# Altium integrated library XMOS xCORE-USB.IntLib: 15 symbols (part 2 of 2)
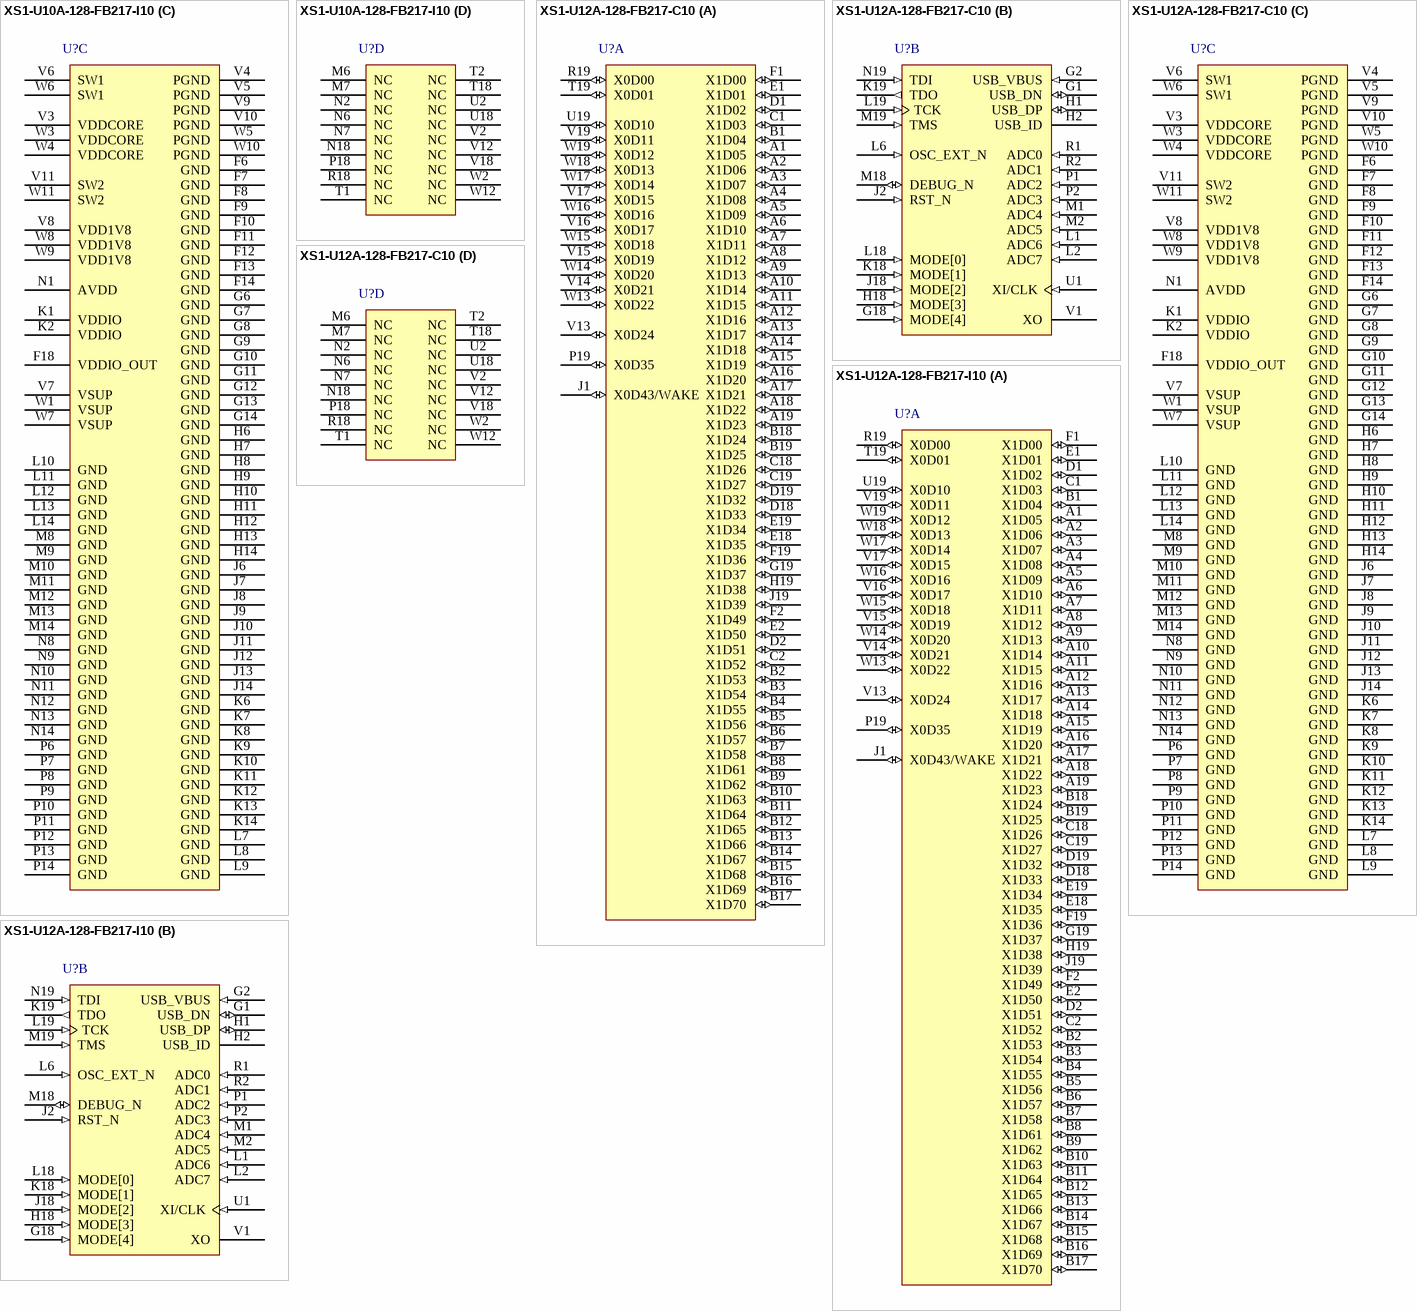
[diagram p6: symbols XS1-U10A-128-FB217-I10 to XS1-U12A-128-FB217-I10]

## XS1-U10A-128-FB217-I10
designator U?
10 Core XS1-U 32-bit Multicore Microcontroller, 74 I/O, -40 to 85 degC, 217-Pin FBGA, Pb-Free; PartNumber: XS1-U10A-128-FB217-I10; Cores/Tiles: 10/2; I/O: 74; RAM: 128 kB; Speed Grade: 1000 MIPS; DatasheetVersion: Rev. X6970; PackageReference: FBGA-217; PackageDescription: 217-Pin Fine Ball Grid Array, Body 16 x 16 mm, Pitch 0.8 mm; Temperature Range: -40 to 85 degC; Mounting Technology: Surface Mount; Code_JEDEC: MO-275; ComponentLink1Description: Manufacturer URL; ComponentLink1URL: http://www.xmos.com/; ComponentLink2Description: Datasheet; ComponentLink2URL: https://www.xmos.com/en/download/public/XS1-U10A-128-FB217-Datasheet%28X6970H%29.pdf; ComponentLink3Description: Package Specification; ComponentLink3URL: https://www.xmos.com/en/download/public/XS1-A16A-128-FB217-Datasheet%28X5719H%29.pdf
footprint XMOS-FBGA-217 (BGA, 217-Balls, Body 16x16mm, Pitch 0.8mm)
part A pins: A1 X1D05 (io), A2 X1D06 (io), A3 X1D07 (io), A4 X1D08 (io), A5 X1D09 (io), A6 X1D10 (io), A7 X1D11 (io), A8 X1D12 (io), A9 X1D13 (io), A10 X1D14 (io), A11 X1D15 (io), A12 X1D16 (io), A13 X1D17 (io), A14 X1D18 (io), A15 X1D19 (io), A16 X1D20 (io), A17 X1D21 (io), A18 X1D22 (io), A19 X1D23 (io), B1 X1D04 (io), B2 X1D53 (io), B3 X1D54 (io), B4 X1D55 (io), B5 X1D56 (io), B6 X1D57 (io), B7 X1D58 (io), B8 X1D61 (io), B9 X1D62 (io), B10 X1D63 (io), B11 X1D64 (io), B12 X1D65 (io), B13 X1D66 (io), B14 X1D67 (io), B15 X1D68 (io), B16 X1D69 (io), B17 X1D70 (io), B18 X1D24 (io), B19 X1D25 (io), C1 X1D03 (io), C2 X1D52 (io), C18 X1D26 (io), C19 X1D27 (io), D1 X1D02 (io), D2 X1D51 (io), D18 X1D33 (io), D19 X1D32 (io), E1 X1D01 (io), E2 X1D50 (io), E18 X1D35 (io), E19 X1D34 (io), F1 X1D00 (io), F2 X1D49 (io), F19 X1D36 (io), G19 X1D37 (io), H19 X1D38 (io), J1 X0D43/WAKE (io), J19 X1D39 (io), P19 X0D35 (io), R19 X0D00 (io), T19 X0D01 (io), U19 X0D10 (io), V13 X0D24 (io), V14 X0D21 (io), V15 X0D19 (io), V16 X0D17 (io), V17 X0D15 (io), V19 X0D11 (io), W13 X0D22 (io), W14 X0D20 (io), W15 X0D18 (io), W16 X0D16 (io), W17 X0D14 (io), W18 X0D13 (io), W19 X0D12 (io)
part B pins: G1 USB_DN (io) "USB Serial Data Inverted", G2 USB_VBUS (in) "USB Power Detect Pin", G18 MODE[4] (in) "Boot mode select", H1 USB_DP (io) "USB Serial Data", H2 USB_ID "USB Device ID (OTG) - Reserved", H18 MODE[3] (in) "Boot mode select", J2 RST_N (in) "Global reset input", J18 MODE[2] (in) "Boot mode select", K18 MODE[1] (in) "Boot mode select", K19 TDO (out) "Test data output", L1 ADC6 (in) "Analog input", L2 ADC7 (in) "Analog input", L6 OSC_EXT_N (in) "Use Silicon Oscillator", L18 MODE[0] (in) "Boot mode select", L19 TCK (in) "Test clock", M1 ADC4 (in) "Analog input", M2 ADC5 (in) "Analog input", M18 DEBUG_N (io) "Multi-chip debug", M19 TMS (in) "Test mode select", N19 TDI (in) "Test data input", P1 ADC2 (in) "Analog input", P2 ADC3 (in) "Analog input", R1 ADC0 (in) "Analog input", R2 ADC1 (in) "Analog input", U1 XI/CLK (in) "Crystal Oscillator/Clock Input", V1 XO "Crystal Oscillator Output"
part C pins: F6 GND (power) "Digital ground", F7 GND (power) "Digital ground", F8 GND (power) "Digital ground", F9 GND (power) "Digital ground", F10 GND (power) "Digital ground", F11 GND (power) "Digital ground", F12 GND (power) "Digital ground", F13 GND (power) "Digital ground", F14 GND (power) "Digital ground", F18 VDDIO_OUT (power) "Digital I/O power out", G6 GND (power) "Digital ground", G7 GND (power) "Digital ground", G8 GND (power) "Digital ground", G9 GND (power) "Digital ground", G10 GND (power) "Digital ground", G11 GND (power) "Digital ground", G12 GND (power) "Digital ground", G13 GND (power) "Digital ground", G14 GND (power) "Digital ground", H6 GND (power) "Digital ground", H7 GND (power) "Digital ground", H8 GND (power) "Digital ground", H9 GND (power) "Digital ground", H10 GND (power) "Digital ground", H11 GND (power) "Digital ground", H12 GND (power) "Digital ground", H13 GND (power) "Digital ground", H14 GND (power) "Digital ground", J6 GND (power) "Digital ground", J7 GND (power) "Digital ground", J8 GND (power) "Digital ground", J9 GND (power) "Digital ground", J10 GND (power) "Digital ground", J11 GND (power) "Digital ground", J12 GND (power) "Digital ground", J13 GND (power) "Digital ground", J14 GND (power) "Digital ground", K1 VDDIO (power) "Digital I/O power", K2 VDDIO (power) "Digital I/O power", K6 GND (power) "Digital ground", K7 GND (power) "Digital ground", K8 GND (power) "Digital ground", K9 GND (power) "Digital ground", K10 GND (power) "Digital ground", K11 GND (power) "Digital ground", K12 GND (power) "Digital ground", K13 GND (power) "Digital ground", K14 GND (power) "Digital ground", L7 GND (power) "Digital ground", L8 GND (power) "Digital ground", L9 GND (power) "Digital ground", L10 GND (power) "Digital ground", L11 GND (power) "Digital ground", L12 GND (power) "Digital ground", L13 GND (power) "Digital ground", L14 GND (power) "Digital ground", M8 GND (power) "Digital ground", M9 GND (power) "Digital ground", M10 GND (power) "Digital ground", M11 GND (power) "Digital ground", M12 GND (power) "Digital ground", M13 GND (power) "Digital ground", M14 GND (power) "Digital ground", N1 AVDD (power) "Supply and reference voltage", N8 GND (power) "Digital ground", N9 GND (power) "Digital ground", N10 GND (power) "Digital ground", N11 GND (power) "Digital ground", N12 GND (power) "Digital ground", N13 GND (power) "Digital ground", N14 GND (power) "Digital ground", P6 GND (power) "Digital ground", P7 GND (power) "Digital ground", P8 GND (power) "Digital ground", P9 GND (power) "Digital ground", P10 GND (power) "Digital ground", P11 GND (power) "Digital ground", P12 GND (power) "Digital ground", P13 GND (power) "Digital ground", P14 GND (power) "Digital ground", V3 VDDCORE (power) "Core voltage supply", V4 PGND (power) "Power ground", V5 PGND (power) "Power ground", V6 SW1 (power) "DCDC1 switched output voltage", V7 VSUP (power) "Power supply (3V3/5V0)", V8 VDD1V8 (power) "1v8 voltage supply", V9 PGND (power) "Power ground", V10 PGND (power) "Power ground", V11 SW2 (power) "DCDC2 switched output voltage", W1 VSUP (power) "Power supply (3V3/5V0)", W3 VDDCORE (power) "Core voltage supply", W4 VDDCORE (power) "Core voltage supply", W5 PGND (power) "Power ground", W6 SW1 (power) "DCDC1 switched output voltage", W7 VSUP (power) "Power supply (3V3/5V0)", W8 VDD1V8 (power) "1v8 voltage supply", W9 VDD1V8 (power) "1v8 voltage supply", W10 PGND (power) "Power ground", W11 SW2 (power) "DCDC2 switched output voltage"
part D pins: M6 NC, M7 NC, N2 NC, N6 NC, N7 NC, N18 NC, P18 NC, R18 NC, T1 NC, T2 NC, T18 NC, U2 NC, U18 NC, V2 NC, V12 NC, V18 NC, W2 NC, W12 NC

## XS1-U12A-128-FB217-C10
designator U?
12 Core XS1-U 32-bit Multicore Microcontroller, 74 I/O, 0 to 70 degC, 217-Pin FBGA, Pb-Free; PartNumber: XS1-U12A-128-FB217-C10; Cores/Tiles: 12/2; I/O: 74; RAM: 128 kB; Speed Grade: 1000 MIPS; DatasheetVersion: Rev. X2877; PackageReference: FBGA-217; PackageDescription: 217-Pin Fine Ball Grid Array, Body 16 x 16 mm, Pitch 0.8 mm; Temperature Range: 0 to 70 degC; Mounting Technology: Surface Mount; Code_JEDEC: MO-275; ComponentLink1Description: Manufacturer URL; ComponentLink1URL: http://www.xmos.com/; ComponentLink2Description: Datasheet; ComponentLink2URL: https://www.xmos.com/en/download/public/XS1-U12A-128-FB217-Datasheet%28X2877H%29.pdf; ComponentLink3Description: Package Specification; ComponentLink3URL: https://www.xmos.com/en/download/public/XS1-A16A-128-FB217-Datasheet%28X5719H%29.pdf
footprint XMOS-FBGA-217 (BGA, 217-Balls, Body 16x16mm, Pitch 0.8mm)
part A pins: A1 X1D05 (io), A2 X1D06 (io), A3 X1D07 (io), A4 X1D08 (io), A5 X1D09 (io), A6 X1D10 (io), A7 X1D11 (io), A8 X1D12 (io), A9 X1D13 (io), A10 X1D14 (io), A11 X1D15 (io), A12 X1D16 (io), A13 X1D17 (io), A14 X1D18 (io), A15 X1D19 (io), A16 X1D20 (io), A17 X1D21 (io), A18 X1D22 (io), A19 X1D23 (io), B1 X1D04 (io), B2 X1D53 (io), B3 X1D54 (io), B4 X1D55 (io), B5 X1D56 (io), B6 X1D57 (io), B7 X1D58 (io), B8 X1D61 (io), B9 X1D62 (io), B10 X1D63 (io), B11 X1D64 (io), B12 X1D65 (io), B13 X1D66 (io), B14 X1D67 (io), B15 X1D68 (io), B16 X1D69 (io), B17 X1D70 (io), B18 X1D24 (io), B19 X1D25 (io), C1 X1D03 (io), C2 X1D52 (io), C18 X1D26 (io), C19 X1D27 (io), D1 X1D02 (io), D2 X1D51 (io), D18 X1D33 (io), D19 X1D32 (io), E1 X1D01 (io), E2 X1D50 (io), E18 X1D35 (io), E19 X1D34 (io), F1 X1D00 (io), F2 X1D49 (io), F19 X1D36 (io), G19 X1D37 (io), H19 X1D38 (io), J1 X0D43/WAKE (io), J19 X1D39 (io), P19 X0D35 (io), R19 X0D00 (io), T19 X0D01 (io), U19 X0D10 (io), V13 X0D24 (io), V14 X0D21 (io), V15 X0D19 (io), V16 X0D17 (io), V17 X0D15 (io), V19 X0D11 (io), W13 X0D22 (io), W14 X0D20 (io), W15 X0D18 (io), W16 X0D16 (io), W17 X0D14 (io), W18 X0D13 (io), W19 X0D12 (io)
part B pins: G1 USB_DN (io) "USB Serial Data Inverted", G2 USB_VBUS (in) "USB Power Detect Pin", G18 MODE[4] (in) "Boot mode select", H1 USB_DP (io) "USB Serial Data", H2 USB_ID "USB Device ID (OTG) - Reserved", H18 MODE[3] (in) "Boot mode select", J2 RST_N (in) "Global reset input", J18 MODE[2] (in) "Boot mode select", K18 MODE[1] (in) "Boot mode select", K19 TDO (out) "Test data output", L1 ADC6 (in) "Analog input", L2 ADC7 (in) "Analog input", L6 OSC_EXT_N (in) "Use Silicon Oscillator", L18 MODE[0] (in) "Boot mode select", L19 TCK (in) "Test clock", M1 ADC4 (in) "Analog input", M2 ADC5 (in) "Analog input", M18 DEBUG_N (io) "Multi-chip debug", M19 TMS (in) "Test mode select", N19 TDI (in) "Test data input", P1 ADC2 (in) "Analog input", P2 ADC3 (in) "Analog input", R1 ADC0 (in) "Analog input", R2 ADC1 (in) "Analog input", U1 XI/CLK (in) "Crystal Oscillator/Clock Input", V1 XO "Crystal Oscillator Output"
part C pins: F6 GND (power) "Digital ground", F7 GND (power) "Digital ground", F8 GND (power) "Digital ground", F9 GND (power) "Digital ground", F10 GND (power) "Digital ground", F11 GND (power) "Digital ground", F12 GND (power) "Digital ground", F13 GND (power) "Digital ground", F14 GND (power) "Digital ground", F18 VDDIO_OUT (power) "Digital I/O power out", G6 GND (power) "Digital ground", G7 GND (power) "Digital ground", G8 GND (power) "Digital ground", G9 GND (power) "Digital ground", G10 GND (power) "Digital ground", G11 GND (power) "Digital ground", G12 GND (power) "Digital ground", G13 GND (power) "Digital ground", G14 GND (power) "Digital ground", H6 GND (power) "Digital ground", H7 GND (power) "Digital ground", H8 GND (power) "Digital ground", H9 GND (power) "Digital ground", H10 GND (power) "Digital ground", H11 GND (power) "Digital ground", H12 GND (power) "Digital ground", H13 GND (power) "Digital ground", H14 GND (power) "Digital ground", J6 GND (power) "Digital ground", J7 GND (power) "Digital ground", J8 GND (power) "Digital ground", J9 GND (power) "Digital ground", J10 GND (power) "Digital ground", J11 GND (power) "Digital ground", J12 GND (power) "Digital ground", J13 GND (power) "Digital ground", J14 GND (power) "Digital ground", K1 VDDIO (power) "Digital I/O power", K2 VDDIO (power) "Digital I/O power", K6 GND (power) "Digital ground", K7 GND (power) "Digital ground", K8 GND (power) "Digital ground", K9 GND (power) "Digital ground", K10 GND (power) "Digital ground", K11 GND (power) "Digital ground", K12 GND (power) "Digital ground", K13 GND (power) "Digital ground", K14 GND (power) "Digital ground", L7 GND (power) "Digital ground", L8 GND (power) "Digital ground", L9 GND (power) "Digital ground", L10 GND (power) "Digital ground", L11 GND (power) "Digital ground", L12 GND (power) "Digital ground", L13 GND (power) "Digital ground", L14 GND (power) "Digital ground", M8 GND (power) "Digital ground", M9 GND (power) "Digital ground", M10 GND (power) "Digital ground", M11 GND (power) "Digital ground", M12 GND (power) "Digital ground", M13 GND (power) "Digital ground", M14 GND (power) "Digital ground", N1 AVDD (power) "Supply and reference voltage", N8 GND (power) "Digital ground", N9 GND (power) "Digital ground", N10 GND (power) "Digital ground", N11 GND (power) "Digital ground", N12 GND (power) "Digital ground", N13 GND (power) "Digital ground", N14 GND (power) "Digital ground", P6 GND (power) "Digital ground", P7 GND (power) "Digital ground", P8 GND (power) "Digital ground", P9 GND (power) "Digital ground", P10 GND (power) "Digital ground", P11 GND (power) "Digital ground", P12 GND (power) "Digital ground", P13 GND (power) "Digital ground", P14 GND (power) "Digital ground", V3 VDDCORE (power) "Core voltage supply", V4 PGND (power) "Power ground", V5 PGND (power) "Power ground", V6 SW1 (power) "DCDC1 switched output voltage", V7 VSUP (power) "Power supply (3V3/5V0)", V8 VDD1V8 (power) "1v8 voltage supply", V9 PGND (power) "Power ground", V10 PGND (power) "Power ground", V11 SW2 (power) "DCDC2 switched output voltage", W1 VSUP (power) "Power supply (3V3/5V0)", W3 VDDCORE (power) "Core voltage supply", W4 VDDCORE (power) "Core voltage supply", W5 PGND (power) "Power ground", W6 SW1 (power) "DCDC1 switched output voltage", W7 VSUP (power) "Power supply (3V3/5V0)", W8 VDD1V8 (power) "1v8 voltage supply", W9 VDD1V8 (power) "1v8 voltage supply", W10 PGND (power) "Power ground", W11 SW2 (power) "DCDC2 switched output voltage"
part D pins: M6 NC, M7 NC, N2 NC, N6 NC, N7 NC, N18 NC, P18 NC, R18 NC, T1 NC, T2 NC, T18 NC, U2 NC, U18 NC, V2 NC, V12 NC, V18 NC, W2 NC, W12 NC

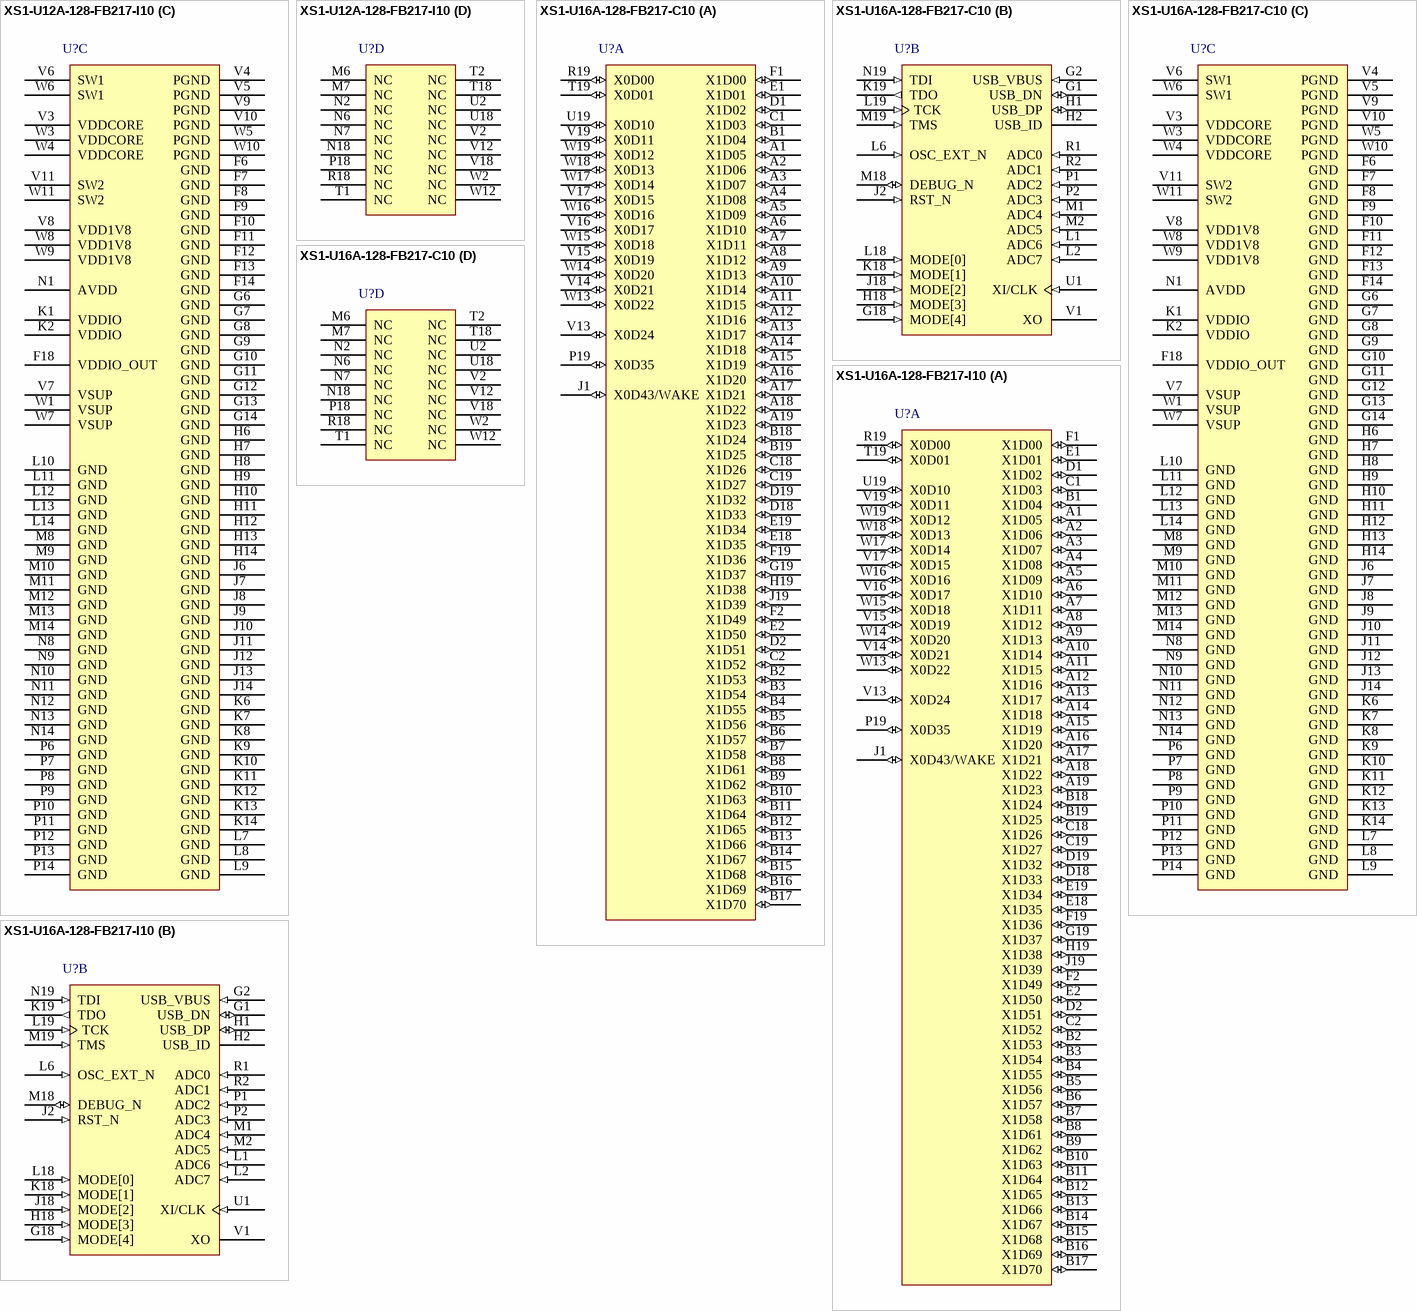
[diagram p4: symbols XS1-U12A-128-FB217-I10 to XS1-U16A-128-FB217-I10]

## XS1-U12A-128-FB217-I10
designator U?
12 Core XS1-U 32-bit Multicore Microcontroller, 74 I/O, -40 to 85 degC, 217-Pin FBGA, Pb-Free; PartNumber: XS1-U12A-128-FB217-I10; Cores/Tiles: 12/2; I/O: 74; RAM: 128 kB; Speed Grade: 1000 MIPS; DatasheetVersion: Rev. X2877; PackageReference: FBGA-217; PackageDescription: 217-Pin Fine Ball Grid Array, Body 16 x 16 mm, Pitch 0.8 mm; Temperature Range: -40 to 85 degC; Mounting Technology: Surface Mount; Code_JEDEC: MO-275; ComponentLink1Description: Manufacturer URL; ComponentLink1URL: http://www.xmos.com/; ComponentLink2Description: Datasheet; ComponentLink2URL: https://www.xmos.com/en/download/public/XS1-U12A-128-FB217-Datasheet%28X2877H%29.pdf; ComponentLink3Description: Package Specification; ComponentLink3URL: https://www.xmos.com/en/download/public/XS1-A16A-128-FB217-Datasheet%28X5719H%29.pdf
footprint XMOS-FBGA-217 (BGA, 217-Balls, Body 16x16mm, Pitch 0.8mm)
part A pins: A1 X1D05 (io), A2 X1D06 (io), A3 X1D07 (io), A4 X1D08 (io), A5 X1D09 (io), A6 X1D10 (io), A7 X1D11 (io), A8 X1D12 (io), A9 X1D13 (io), A10 X1D14 (io), A11 X1D15 (io), A12 X1D16 (io), A13 X1D17 (io), A14 X1D18 (io), A15 X1D19 (io), A16 X1D20 (io), A17 X1D21 (io), A18 X1D22 (io), A19 X1D23 (io), B1 X1D04 (io), B2 X1D53 (io), B3 X1D54 (io), B4 X1D55 (io), B5 X1D56 (io), B6 X1D57 (io), B7 X1D58 (io), B8 X1D61 (io), B9 X1D62 (io), B10 X1D63 (io), B11 X1D64 (io), B12 X1D65 (io), B13 X1D66 (io), B14 X1D67 (io), B15 X1D68 (io), B16 X1D69 (io), B17 X1D70 (io), B18 X1D24 (io), B19 X1D25 (io), C1 X1D03 (io), C2 X1D52 (io), C18 X1D26 (io), C19 X1D27 (io), D1 X1D02 (io), D2 X1D51 (io), D18 X1D33 (io), D19 X1D32 (io), E1 X1D01 (io), E2 X1D50 (io), E18 X1D35 (io), E19 X1D34 (io), F1 X1D00 (io), F2 X1D49 (io), F19 X1D36 (io), G19 X1D37 (io), H19 X1D38 (io), J1 X0D43/WAKE (io), J19 X1D39 (io), P19 X0D35 (io), R19 X0D00 (io), T19 X0D01 (io), U19 X0D10 (io), V13 X0D24 (io), V14 X0D21 (io), V15 X0D19 (io), V16 X0D17 (io), V17 X0D15 (io), V19 X0D11 (io), W13 X0D22 (io), W14 X0D20 (io), W15 X0D18 (io), W16 X0D16 (io), W17 X0D14 (io), W18 X0D13 (io), W19 X0D12 (io)
part B pins: G1 USB_DN (io) "USB Serial Data Inverted", G2 USB_VBUS (in) "USB Power Detect Pin", G18 MODE[4] (in) "Boot mode select", H1 USB_DP (io) "USB Serial Data", H2 USB_ID "USB Device ID (OTG) - Reserved", H18 MODE[3] (in) "Boot mode select", J2 RST_N (in) "Global reset input", J18 MODE[2] (in) "Boot mode select", K18 MODE[1] (in) "Boot mode select", K19 TDO (out) "Test data output", L1 ADC6 (in) "Analog input", L2 ADC7 (in) "Analog input", L6 OSC_EXT_N (in) "Use Silicon Oscillator", L18 MODE[0] (in) "Boot mode select", L19 TCK (in) "Test clock", M1 ADC4 (in) "Analog input", M2 ADC5 (in) "Analog input", M18 DEBUG_N (io) "Multi-chip debug", M19 TMS (in) "Test mode select", N19 TDI (in) "Test data input", P1 ADC2 (in) "Analog input", P2 ADC3 (in) "Analog input", R1 ADC0 (in) "Analog input", R2 ADC1 (in) "Analog input", U1 XI/CLK (in) "Crystal Oscillator/Clock Input", V1 XO "Crystal Oscillator Output"
part C pins: F6 GND (power) "Digital ground", F7 GND (power) "Digital ground", F8 GND (power) "Digital ground", F9 GND (power) "Digital ground", F10 GND (power) "Digital ground", F11 GND (power) "Digital ground", F12 GND (power) "Digital ground", F13 GND (power) "Digital ground", F14 GND (power) "Digital ground", F18 VDDIO_OUT (power) "Digital I/O power out", G6 GND (power) "Digital ground", G7 GND (power) "Digital ground", G8 GND (power) "Digital ground", G9 GND (power) "Digital ground", G10 GND (power) "Digital ground", G11 GND (power) "Digital ground", G12 GND (power) "Digital ground", G13 GND (power) "Digital ground", G14 GND (power) "Digital ground", H6 GND (power) "Digital ground", H7 GND (power) "Digital ground", H8 GND (power) "Digital ground", H9 GND (power) "Digital ground", H10 GND (power) "Digital ground", H11 GND (power) "Digital ground", H12 GND (power) "Digital ground", H13 GND (power) "Digital ground", H14 GND (power) "Digital ground", J6 GND (power) "Digital ground", J7 GND (power) "Digital ground", J8 GND (power) "Digital ground", J9 GND (power) "Digital ground", J10 GND (power) "Digital ground", J11 GND (power) "Digital ground", J12 GND (power) "Digital ground", J13 GND (power) "Digital ground", J14 GND (power) "Digital ground", K1 VDDIO (power) "Digital I/O power", K2 VDDIO (power) "Digital I/O power", K6 GND (power) "Digital ground", K7 GND (power) "Digital ground", K8 GND (power) "Digital ground", K9 GND (power) "Digital ground", K10 GND (power) "Digital ground", K11 GND (power) "Digital ground", K12 GND (power) "Digital ground", K13 GND (power) "Digital ground", K14 GND (power) "Digital ground", L7 GND (power) "Digital ground", L8 GND (power) "Digital ground", L9 GND (power) "Digital ground", L10 GND (power) "Digital ground", L11 GND (power) "Digital ground", L12 GND (power) "Digital ground", L13 GND (power) "Digital ground", L14 GND (power) "Digital ground", M8 GND (power) "Digital ground", M9 GND (power) "Digital ground", M10 GND (power) "Digital ground", M11 GND (power) "Digital ground", M12 GND (power) "Digital ground", M13 GND (power) "Digital ground", M14 GND (power) "Digital ground", N1 AVDD (power) "Supply and reference voltage", N8 GND (power) "Digital ground", N9 GND (power) "Digital ground", N10 GND (power) "Digital ground", N11 GND (power) "Digital ground", N12 GND (power) "Digital ground", N13 GND (power) "Digital ground", N14 GND (power) "Digital ground", P6 GND (power) "Digital ground", P7 GND (power) "Digital ground", P8 GND (power) "Digital ground", P9 GND (power) "Digital ground", P10 GND (power) "Digital ground", P11 GND (power) "Digital ground", P12 GND (power) "Digital ground", P13 GND (power) "Digital ground", P14 GND (power) "Digital ground", V3 VDDCORE (power) "Core voltage supply", V4 PGND (power) "Power ground", V5 PGND (power) "Power ground", V6 SW1 (power) "DCDC1 switched output voltage", V7 VSUP (power) "Power supply (3V3/5V0)", V8 VDD1V8 (power) "1v8 voltage supply", V9 PGND (power) "Power ground", V10 PGND (power) "Power ground", V11 SW2 (power) "DCDC2 switched output voltage", W1 VSUP (power) "Power supply (3V3/5V0)", W3 VDDCORE (power) "Core voltage supply", W4 VDDCORE (power) "Core voltage supply", W5 PGND (power) "Power ground", W6 SW1 (power) "DCDC1 switched output voltage", W7 VSUP (power) "Power supply (3V3/5V0)", W8 VDD1V8 (power) "1v8 voltage supply", W9 VDD1V8 (power) "1v8 voltage supply", W10 PGND (power) "Power ground", W11 SW2 (power) "DCDC2 switched output voltage"
part D pins: M6 NC, M7 NC, N2 NC, N6 NC, N7 NC, N18 NC, P18 NC, R18 NC, T1 NC, T2 NC, T18 NC, U2 NC, U18 NC, V2 NC, V12 NC, V18 NC, W2 NC, W12 NC

## XS1-U16A-128-FB217-C10
designator U?
16 Core XS1-U 32-bit Multicore Microcontroller, 74 I/O, 0 to 70 degC, 217-Pin FBGA, Pb-Free; PartNumber: XS1-U16A-128-FB217-C10; Cores/Tiles: 16/2; I/O: 74; RAM: 128 kB; Speed Grade: 1000 MIPS; DatasheetVersion: Rev. X1110; PackageReference: FBGA-217; PackageDescription: 217-Pin Fine Ball Grid Array, Body 16 x 16 mm, Pitch 0.8 mm; Temperature Range: 0 to 70 degC; Mounting Technology: Surface Mount; Code_JEDEC: MO-275; ComponentLink1Description: Manufacturer URL; ComponentLink1URL: http://www.xmos.com/; ComponentLink2Description: Datasheet; ComponentLink2URL: https://www.xmos.com/en/download/public/XS1-U16A-128-FB217-Datasheet%28X1110G%29.pdf; ComponentLink3Description: Package Specification; ComponentLink3URL: https://www.xmos.com/en/download/public/XS1-A16A-128-FB217-Datasheet%28X5719H%29.pdf
footprint XMOS-FBGA-217 (BGA, 217-Balls, Body 16x16mm, Pitch 0.8mm)
part A pins: A1 X1D05 (io), A2 X1D06 (io), A3 X1D07 (io), A4 X1D08 (io), A5 X1D09 (io), A6 X1D10 (io), A7 X1D11 (io), A8 X1D12 (io), A9 X1D13 (io), A10 X1D14 (io), A11 X1D15 (io), A12 X1D16 (io), A13 X1D17 (io), A14 X1D18 (io), A15 X1D19 (io), A16 X1D20 (io), A17 X1D21 (io), A18 X1D22 (io), A19 X1D23 (io), B1 X1D04 (io), B2 X1D53 (io), B3 X1D54 (io), B4 X1D55 (io), B5 X1D56 (io), B6 X1D57 (io), B7 X1D58 (io), B8 X1D61 (io), B9 X1D62 (io), B10 X1D63 (io), B11 X1D64 (io), B12 X1D65 (io), B13 X1D66 (io), B14 X1D67 (io), B15 X1D68 (io), B16 X1D69 (io), B17 X1D70 (io), B18 X1D24 (io), B19 X1D25 (io), C1 X1D03 (io), C2 X1D52 (io), C18 X1D26 (io), C19 X1D27 (io), D1 X1D02 (io), D2 X1D51 (io), D18 X1D33 (io), D19 X1D32 (io), E1 X1D01 (io), E2 X1D50 (io), E18 X1D35 (io), E19 X1D34 (io), F1 X1D00 (io), F2 X1D49 (io), F19 X1D36 (io), G19 X1D37 (io), H19 X1D38 (io), J1 X0D43/WAKE (io), J19 X1D39 (io), P19 X0D35 (io), R19 X0D00 (io), T19 X0D01 (io), U19 X0D10 (io), V13 X0D24 (io), V14 X0D21 (io), V15 X0D19 (io), V16 X0D17 (io), V17 X0D15 (io), V19 X0D11 (io), W13 X0D22 (io), W14 X0D20 (io), W15 X0D18 (io), W16 X0D16 (io), W17 X0D14 (io), W18 X0D13 (io), W19 X0D12 (io)
part B pins: G1 USB_DN (io) "USB Serial Data Inverted", G2 USB_VBUS (in) "USB Power Detect Pin", G18 MODE[4] (in) "Boot mode select", H1 USB_DP (io) "USB Serial Data", H2 USB_ID "USB Device ID (OTG) - Reserved", H18 MODE[3] (in) "Boot mode select", J2 RST_N (in) "Global reset input", J18 MODE[2] (in) "Boot mode select", K18 MODE[1] (in) "Boot mode select", K19 TDO (out) "Test data output", L1 ADC6 (in) "Analog input", L2 ADC7 (in) "Analog input", L6 OSC_EXT_N (in) "Use Silicon Oscillator", L18 MODE[0] (in) "Boot mode select", L19 TCK (in) "Test clock", M1 ADC4 (in) "Analog input", M2 ADC5 (in) "Analog input", M18 DEBUG_N (io) "Multi-chip debug", M19 TMS (in) "Test mode select", N19 TDI (in) "Test data input", P1 ADC2 (in) "Analog input", P2 ADC3 (in) "Analog input", R1 ADC0 (in) "Analog input", R2 ADC1 (in) "Analog input", U1 XI/CLK (in) "Crystal Oscillator/Clock Input", V1 XO "Crystal Oscillator Output"
part C pins: F6 GND (power) "Digital ground", F7 GND (power) "Digital ground", F8 GND (power) "Digital ground", F9 GND (power) "Digital ground", F10 GND (power) "Digital ground", F11 GND (power) "Digital ground", F12 GND (power) "Digital ground", F13 GND (power) "Digital ground", F14 GND (power) "Digital ground", F18 VDDIO_OUT (power) "Digital I/O power out", G6 GND (power) "Digital ground", G7 GND (power) "Digital ground", G8 GND (power) "Digital ground", G9 GND (power) "Digital ground", G10 GND (power) "Digital ground", G11 GND (power) "Digital ground", G12 GND (power) "Digital ground", G13 GND (power) "Digital ground", G14 GND (power) "Digital ground", H6 GND (power) "Digital ground", H7 GND (power) "Digital ground", H8 GND (power) "Digital ground", H9 GND (power) "Digital ground", H10 GND (power) "Digital ground", H11 GND (power) "Digital ground", H12 GND (power) "Digital ground", H13 GND (power) "Digital ground", H14 GND (power) "Digital ground", J6 GND (power) "Digital ground", J7 GND (power) "Digital ground", J8 GND (power) "Digital ground", J9 GND (power) "Digital ground", J10 GND (power) "Digital ground", J11 GND (power) "Digital ground", J12 GND (power) "Digital ground", J13 GND (power) "Digital ground", J14 GND (power) "Digital ground", K1 VDDIO (power) "Digital I/O power", K2 VDDIO (power) "Digital I/O power", K6 GND (power) "Digital ground", K7 GND (power) "Digital ground", K8 GND (power) "Digital ground", K9 GND (power) "Digital ground", K10 GND (power) "Digital ground", K11 GND (power) "Digital ground", K12 GND (power) "Digital ground", K13 GND (power) "Digital ground", K14 GND (power) "Digital ground", L7 GND (power) "Digital ground", L8 GND (power) "Digital ground", L9 GND (power) "Digital ground", L10 GND (power) "Digital ground", L11 GND (power) "Digital ground", L12 GND (power) "Digital ground", L13 GND (power) "Digital ground", L14 GND (power) "Digital ground", M8 GND (power) "Digital ground", M9 GND (power) "Digital ground", M10 GND (power) "Digital ground", M11 GND (power) "Digital ground", M12 GND (power) "Digital ground", M13 GND (power) "Digital ground", M14 GND (power) "Digital ground", N1 AVDD (power) "Supply and reference voltage", N8 GND (power) "Digital ground", N9 GND (power) "Digital ground", N10 GND (power) "Digital ground", N11 GND (power) "Digital ground", N12 GND (power) "Digital ground", N13 GND (power) "Digital ground", N14 GND (power) "Digital ground", P6 GND (power) "Digital ground", P7 GND (power) "Digital ground", P8 GND (power) "Digital ground", P9 GND (power) "Digital ground", P10 GND (power) "Digital ground", P11 GND (power) "Digital ground", P12 GND (power) "Digital ground", P13 GND (power) "Digital ground", P14 GND (power) "Digital ground", V3 VDDCORE (power) "Core voltage supply", V4 PGND (power) "Power ground", V5 PGND (power) "Power ground", V6 SW1 (power) "DCDC1 switched output voltage", V7 VSUP (power) "Power supply (3V3/5V0)", V8 VDD1V8 (power) "1v8 voltage supply", V9 PGND (power) "Power ground", V10 PGND (power) "Power ground", V11 SW2 (power) "DCDC2 switched output voltage", W1 VSUP (power) "Power supply (3V3/5V0)", W3 VDDCORE (power) "Core voltage supply", W4 VDDCORE (power) "Core voltage supply", W5 PGND (power) "Power ground", W6 SW1 (power) "DCDC1 switched output voltage", W7 VSUP (power) "Power supply (3V3/5V0)", W8 VDD1V8 (power) "1v8 voltage supply", W9 VDD1V8 (power) "1v8 voltage supply", W10 PGND (power) "Power ground", W11 SW2 (power) "DCDC2 switched output voltage"
part D pins: M6 NC, M7 NC, N2 NC, N6 NC, N7 NC, N18 NC, P18 NC, R18 NC, T1 NC, T2 NC, T18 NC, U2 NC, U18 NC, V2 NC, V12 NC, V18 NC, W2 NC, W12 NC

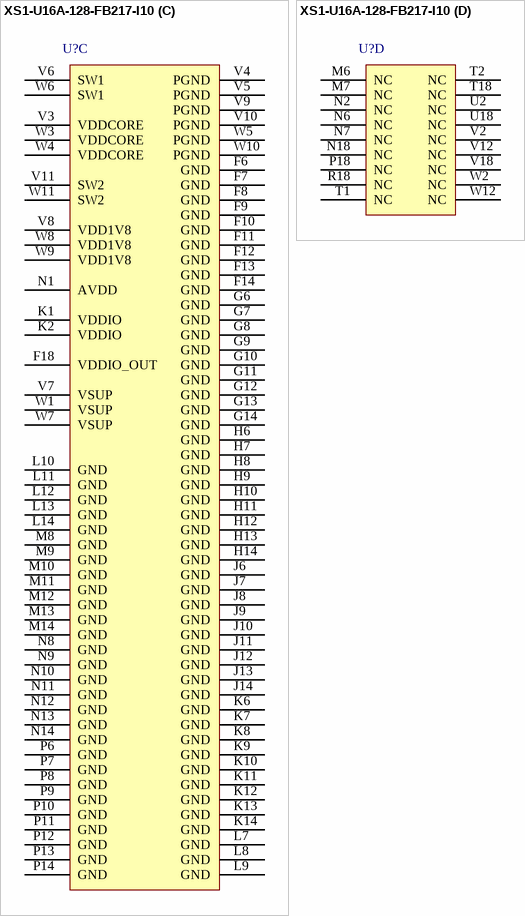
[diagram p5: symbol XS1-U16A-128-FB217-I10]

## XS1-U16A-128-FB217-I10
designator U?
16 Core XS1-U 32-bit Multicore Microcontroller, 74 I/O, -40 to 85 degC, 217-Pin FBGA, Pb-Free; PartNumber: XS1-U16A-128-FB217-I10; Cores/Tiles: 16/2; I/O: 74; RAM: 128 kB; Speed Grade: 1000 MIPS; DatasheetVersion: Rev. X1110; PackageReference: FBGA-217; PackageDescription: 217-Pin Fine Ball Grid Array, Body 16 x 16 mm, Pitch 0.8 mm; Temperature Range: -40 to 85 degC; Mounting Technology: Surface Mount; Code_JEDEC: MO-275; ComponentLink1Description: Manufacturer URL; ComponentLink1URL: http://www.xmos.com/; ComponentLink2Description: Datasheet; ComponentLink2URL: https://www.xmos.com/en/download/public/XS1-U16A-128-FB217-Datasheet%28X1110G%29.pdf; ComponentLink3Description: Package Specification; ComponentLink3URL: https://www.xmos.com/en/download/public/XS1-A16A-128-FB217-Datasheet%28X5719H%29.pdf
footprint XMOS-FBGA-217 (BGA, 217-Balls, Body 16x16mm, Pitch 0.8mm)
part A pins: A1 X1D05 (io), A2 X1D06 (io), A3 X1D07 (io), A4 X1D08 (io), A5 X1D09 (io), A6 X1D10 (io), A7 X1D11 (io), A8 X1D12 (io), A9 X1D13 (io), A10 X1D14 (io), A11 X1D15 (io), A12 X1D16 (io), A13 X1D17 (io), A14 X1D18 (io), A15 X1D19 (io), A16 X1D20 (io), A17 X1D21 (io), A18 X1D22 (io), A19 X1D23 (io), B1 X1D04 (io), B2 X1D53 (io), B3 X1D54 (io), B4 X1D55 (io), B5 X1D56 (io), B6 X1D57 (io), B7 X1D58 (io), B8 X1D61 (io), B9 X1D62 (io), B10 X1D63 (io), B11 X1D64 (io), B12 X1D65 (io), B13 X1D66 (io), B14 X1D67 (io), B15 X1D68 (io), B16 X1D69 (io), B17 X1D70 (io), B18 X1D24 (io), B19 X1D25 (io), C1 X1D03 (io), C2 X1D52 (io), C18 X1D26 (io), C19 X1D27 (io), D1 X1D02 (io), D2 X1D51 (io), D18 X1D33 (io), D19 X1D32 (io), E1 X1D01 (io), E2 X1D50 (io), E18 X1D35 (io), E19 X1D34 (io), F1 X1D00 (io), F2 X1D49 (io), F19 X1D36 (io), G19 X1D37 (io), H19 X1D38 (io), J1 X0D43/WAKE (io), J19 X1D39 (io), P19 X0D35 (io), R19 X0D00 (io), T19 X0D01 (io), U19 X0D10 (io), V13 X0D24 (io), V14 X0D21 (io), V15 X0D19 (io), V16 X0D17 (io), V17 X0D15 (io), V19 X0D11 (io), W13 X0D22 (io), W14 X0D20 (io), W15 X0D18 (io), W16 X0D16 (io), W17 X0D14 (io), W18 X0D13 (io), W19 X0D12 (io)
part B pins: G1 USB_DN (io) "USB Serial Data Inverted", G2 USB_VBUS (in) "USB Power Detect Pin", G18 MODE[4] (in) "Boot mode select", H1 USB_DP (io) "USB Serial Data", H2 USB_ID "USB Device ID (OTG) - Reserved", H18 MODE[3] (in) "Boot mode select", J2 RST_N (in) "Global reset input", J18 MODE[2] (in) "Boot mode select", K18 MODE[1] (in) "Boot mode select", K19 TDO (out) "Test data output", L1 ADC6 (in) "Analog input", L2 ADC7 (in) "Analog input", L6 OSC_EXT_N (in) "Use Silicon Oscillator", L18 MODE[0] (in) "Boot mode select", L19 TCK (in) "Test clock", M1 ADC4 (in) "Analog input", M2 ADC5 (in) "Analog input", M18 DEBUG_N (io) "Multi-chip debug", M19 TMS (in) "Test mode select", N19 TDI (in) "Test data input", P1 ADC2 (in) "Analog input", P2 ADC3 (in) "Analog input", R1 ADC0 (in) "Analog input", R2 ADC1 (in) "Analog input", U1 XI/CLK (in) "Crystal Oscillator/Clock Input", V1 XO "Crystal Oscillator Output"
part C pins: F6 GND (power) "Digital ground", F7 GND (power) "Digital ground", F8 GND (power) "Digital ground", F9 GND (power) "Digital ground", F10 GND (power) "Digital ground", F11 GND (power) "Digital ground", F12 GND (power) "Digital ground", F13 GND (power) "Digital ground", F14 GND (power) "Digital ground", F18 VDDIO_OUT (power) "Digital I/O power out", G6 GND (power) "Digital ground", G7 GND (power) "Digital ground", G8 GND (power) "Digital ground", G9 GND (power) "Digital ground", G10 GND (power) "Digital ground", G11 GND (power) "Digital ground", G12 GND (power) "Digital ground", G13 GND (power) "Digital ground", G14 GND (power) "Digital ground", H6 GND (power) "Digital ground", H7 GND (power) "Digital ground", H8 GND (power) "Digital ground", H9 GND (power) "Digital ground", H10 GND (power) "Digital ground", H11 GND (power) "Digital ground", H12 GND (power) "Digital ground", H13 GND (power) "Digital ground", H14 GND (power) "Digital ground", J6 GND (power) "Digital ground", J7 GND (power) "Digital ground", J8 GND (power) "Digital ground", J9 GND (power) "Digital ground", J10 GND (power) "Digital ground", J11 GND (power) "Digital ground", J12 GND (power) "Digital ground", J13 GND (power) "Digital ground", J14 GND (power) "Digital ground", K1 VDDIO (power) "Digital I/O power", K2 VDDIO (power) "Digital I/O power", K6 GND (power) "Digital ground", K7 GND (power) "Digital ground", K8 GND (power) "Digital ground", K9 GND (power) "Digital ground", K10 GND (power) "Digital ground", K11 GND (power) "Digital ground", K12 GND (power) "Digital ground", K13 GND (power) "Digital ground", K14 GND (power) "Digital ground", L7 GND (power) "Digital ground", L8 GND (power) "Digital ground", L9 GND (power) "Digital ground", L10 GND (power) "Digital ground", L11 GND (power) "Digital ground", L12 GND (power) "Digital ground", L13 GND (power) "Digital ground", L14 GND (power) "Digital ground", M8 GND (power) "Digital ground", M9 GND (power) "Digital ground", M10 GND (power) "Digital ground", M11 GND (power) "Digital ground", M12 GND (power) "Digital ground", M13 GND (power) "Digital ground", M14 GND (power) "Digital ground", N1 AVDD (power) "Supply and reference voltage", N8 GND (power) "Digital ground", N9 GND (power) "Digital ground", N10 GND (power) "Digital ground", N11 GND (power) "Digital ground", N12 GND (power) "Digital ground", N13 GND (power) "Digital ground", N14 GND (power) "Digital ground", P6 GND (power) "Digital ground", P7 GND (power) "Digital ground", P8 GND (power) "Digital ground", P9 GND (power) "Digital ground", P10 GND (power) "Digital ground", P11 GND (power) "Digital ground", P12 GND (power) "Digital ground", P13 GND (power) "Digital ground", P14 GND (power) "Digital ground", V3 VDDCORE (power) "Core voltage supply", V4 PGND (power) "Power ground", V5 PGND (power) "Power ground", V6 SW1 (power) "DCDC1 switched output voltage", V7 VSUP (power) "Power supply (3V3/5V0)", V8 VDD1V8 (power) "1v8 voltage supply", V9 PGND (power) "Power ground", V10 PGND (power) "Power ground", V11 SW2 (power) "DCDC2 switched output voltage", W1 VSUP (power) "Power supply (3V3/5V0)", W3 VDDCORE (power) "Core voltage supply", W4 VDDCORE (power) "Core voltage supply", W5 PGND (power) "Power ground", W6 SW1 (power) "DCDC1 switched output voltage", W7 VSUP (power) "Power supply (3V3/5V0)", W8 VDD1V8 (power) "1v8 voltage supply", W9 VDD1V8 (power) "1v8 voltage supply", W10 PGND (power) "Power ground", W11 SW2 (power) "DCDC2 switched output voltage"
part D pins: M6 NC, M7 NC, N2 NC, N6 NC, N7 NC, N18 NC, P18 NC, R18 NC, T1 NC, T2 NC, T18 NC, U2 NC, U18 NC, V2 NC, V12 NC, V18 NC, W2 NC, W12 NC